# Altium schematic symbol library MyLib.SchLib: 57 symbols
Pins are listed as number, name and electrical type; pins without a type are passive.

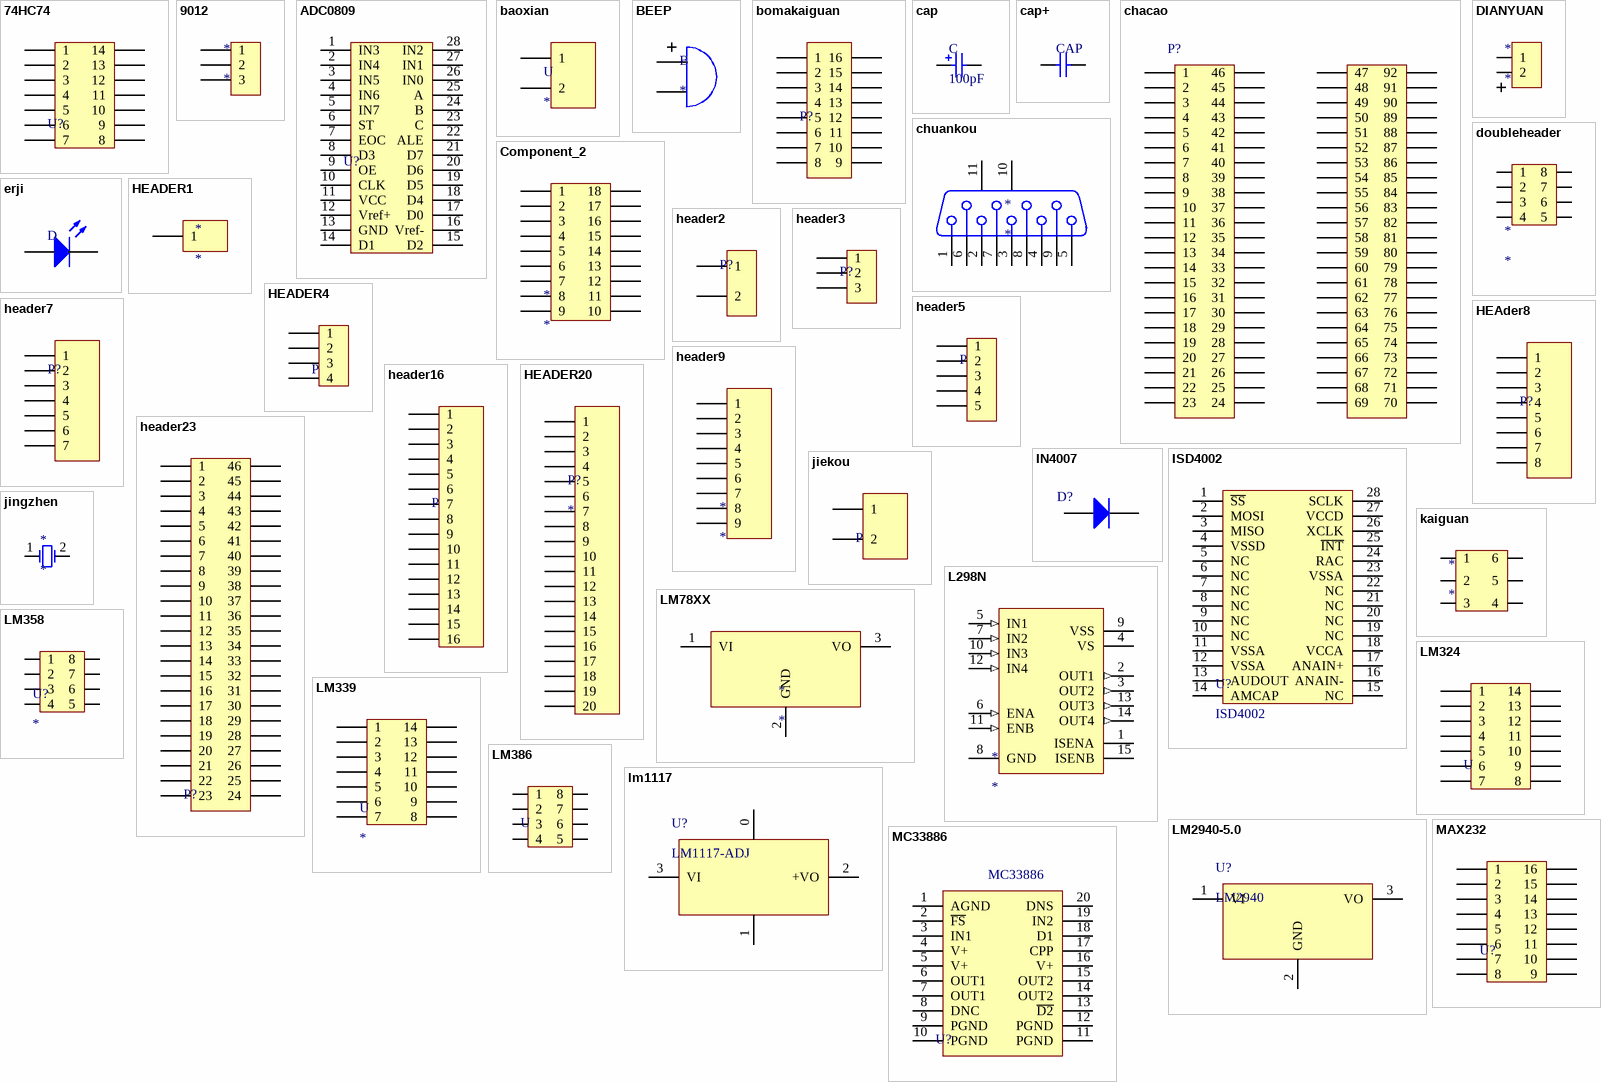
[diagram p0: symbols 74HC74 to MC33886]

## 74HC74
designator U?  (value not drawn)
footprint 74HC74
pins: 1, 2, 3, 4, 5, 6, 7, 8, 9, 10, 11, 12, 13, 14

## 9012
designator *
pins: 1, 2, 3

## ADC0809
designator U?  (value not drawn)
footprint ADC0809
pins: 1 IN3, 2 IN4, 3 IN5, 4 IN6, 5 IN7, 6 ST, 7 EOC, 8 D3, 9 OE, 10 CLK, 11 VCC, 12 Vref+, 13 GND, 14 D1, 15 D2, 16 Vref-, 17 D0, 18 D4, 19 D5, 20 D6, 21 D7, 22 ALE, 23 C, 24 B, 25 A, 26 IN0, 27 IN1, 28 IN2

## baoxian
designator U
footprint baoxian
pins: 1, 2

## BEEP
designator B
footprint BEEP
pins: 1 A, 2 B

## bomakaiguan
designator P?  (value not drawn)
footprint boma
pins: 1, 2, 3, 4, 5, 6, 7, 8, 9, 10, 11, 12, 13, 14, 15, 16

## cap
designator C, comment 100pF
footprint CAP
footprint CAP-100uF
pins: 1, 2

## cap+
designator CAP
footprint CAP--103
pins: 1, 2

## chacao
designator P?
footprint chacao
pins: 1, 2, 3, 4, 5, 6, 7, 8, 9, 10, 11, 12, 13, 14, 15, 16, 17, 18, 19, 20, 21, 22, 23, 24, 25, 26, 27, 28, 29, 30, 31, 32, 33, 34, 35, 36, 37, 38, 39, 40, 41, 42, 43, 44, 45, 46, 47, 48, 49, 50, 51, 52, 53, 54, 55, 56, 57, 58, 59, 60, 61, 62, 63, 64, 65, 66, 67, 68, 69, 70, 71, 72, 73, 74, 75, 76, 77, 78, 79, 80, 81, 82, 83, 84, 85, 86, 87, 88, 89, 90, 91, 92

## chuankou
designator *
pins: 1, 2, 3, 4, 5, 6, 7, 8, 9, 10 MH1, 11 MH2

## Component_2
designator *
footprint PCBComponent_1
pins: 1, 2, 3, 4, 5, 6, 7, 8, 9, 10, 11, 12, 13, 14, 15, 16, 17, 18

## DIANYUAN
designator *
footprint dianyuan
pins: 1, 2

## doubleheader
designator *
footprint header16
pins: 1, 2, 3, 4, 5, 6, 7, 8

## erji
designator D  (value not drawn)
footprint LED
pins: 1 A, 2 K

## HEADER1
designator *
pins: 1

## header2
designator P?  (value not drawn)
footprint header2 - duplicate
footprint HEADER2
pins: 1, 2

## header3
designator P?  (value not drawn)
footprint hesder3
pins: 1, 2, 3

## HEADER4
designator P  (value not drawn)
footprint HEADER4
pins: 1, 2, 3, 4

## header5
designator P  (value not drawn)
footprint header5
pins: 1, 2, 3, 4, 5

## header7
designator P?  (value not drawn)
footprint header7
pins: 1, 2, 3, 4, 5, 6, 7

## HEAder8
designator P?  (value not drawn)
footprint header8
pins: 1, 2, 3, 4, 5, 6, 7, 8

## header9
designator *
footprint heasder9
pins: 1, 2, 3, 4, 5, 6, 7, 8, 9

## header16
designator P  (value not drawn)
footprint header16 - duplicate
footprint header16 - duplicate
pins: 1, 2, 3, 4, 5, 6, 7, 8, 9, 10, 11, 12, 13, 14, 15, 16

## HEADER20
designator P?
footprint header20
pins: 1, 2, 3, 4, 5, 6, 7, 8, 9, 10, 11, 12, 13, 14, 15, 16, 17, 18, 19, 20

## header23
designator P?  (value not drawn)
footprint header23
pins: 1, 2, 3, 4, 5, 6, 7, 8, 9, 10, 11, 12, 13, 14, 15, 16, 17, 18, 19, 20, 21, 22, 23, 24, 25, 26, 27, 28, 29, 30, 31, 32, 33, 34, 35, 36, 37, 38, 39, 40, 41, 42, 43, 44, 45, 46

## IN4007
designator D?
footprint IN4007
pins: 1 A, 2 K

## ISD4002
designator U?
footprint ISD4002
pins: 1 ~{SS}, 2 MOSI, 3 MISO, 4 VSSD, 5 NC, 6 NC, 7 NC, 8 NC, 9 NC, 10 NC, 11 VSSA, 12 VSSA, 13 AUDOUT, 14 AMCAP, 15 NC, 16 ANAIN-, 17 ANAIN+, 18 VCCA, 19 NC, 20 NC, 21 NC, 22 NC, 23 VSSA, 24 RAC, 25 ~{INT}, 26 XCLK, 27 VCCD, 28 SCLK

## jiekou
designator P  (value not drawn)
footprint jiekou
pins: 1, 2

## jingzhen
designator *
footprint XTAL
pins: 1 OSC1, 2 OSC2

## kaiguan
designator *
footprint kaiguan
pins: 1, 2, 3, 4, 5, 6

## L298N
designator *
footprint L298N
pins: 1 ISENA, 2 OUT1 (out), 3 OUT2 (out), 4 VS, 5 IN1 (in), 6 ENA (in), 7 IN2 (in), 8 GND, 9 VSS, 10 IN3 (in), 11 ENB (in), 12 IN4 (in), 13 OUT3 (out), 14 OUT4 (out), 15 ISENB

## LM78XX
designator *
footprint LM78XX
pins: 1 VI, 2 GND, 3 VO

## LM324
designator U
footprint LM324
pins: 1, 2, 3, 4, 5, 6, 7, 8, 9, 10, 11, 12, 13, 14

## LM339
designator U
footprint LM339
pins: 1, 2, 3, 4, 5, 6, 7, 8, 9, 10, 11, 12, 13, 14

## LM358
designator U?
footprint LM358
pins: 1, 2, 3, 4, 5, 6, 7, 8

## LM386
designator U  (value not drawn)
footprint LM386
pins: 1, 2, 3, 4, 5, 6, 7, 8

## lm1117
designator U?, comment LM1117-ADJ
footprint LM1117 (SOT223, 4-Leads, Body 6.7x7.3mm (max), Pitch 2.30mm, IPC Medium Density)
pins: 0, 1, 2 +VO, 3 VI

## LM2940-5.0
designator U?, comment LM2940
footprint LM2940-5.0
pins: 1 VI, 2 GND, 3 VO

## MAX232
designator U?  (value not drawn)
footprint MAX232
pins: 1, 2, 3, 4, 5, 6, 7, 8, 9, 10, 11, 12, 13, 14, 15, 16

## MC33886
designator U?  (value not drawn)
footprint MC33886
pins: 1 AGND, 2 ~{FS}, 3 IN1, 4 V+, 5 V+, 6 OUT1, 7 OUT1, 8 DNC, 9 PGND, 10 PGND, 11 PGND, 12 PGND, 13 ~{D2}, 14 OUT2, 15 OUT2, 16 V+, 17 CPP, 18 D1, 19 IN2, 20 DNS

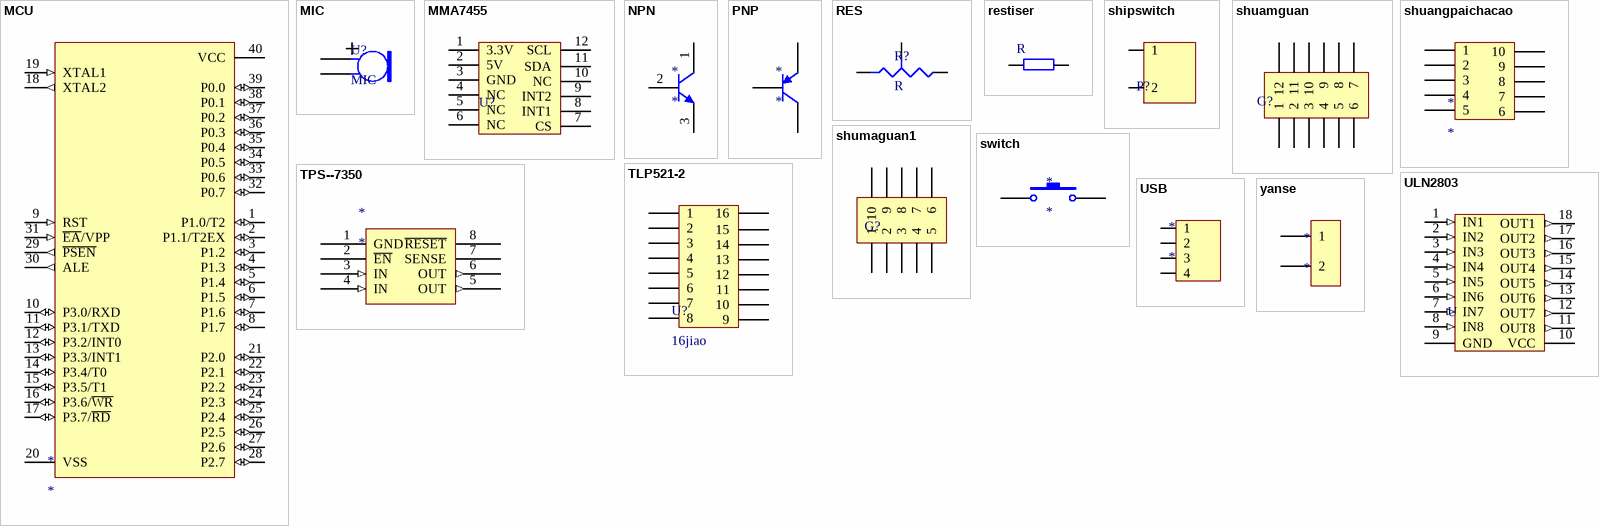
[diagram p1: symbols MCU to yanse]

## MCU
designator *
footprint MCU
pins: 1 P1.0/T2 (io), 2 P1.1/T2EX (io), 3 P1.2 (io), 4 P1.3 (io), 5 P1.4 (io), 6 P1.5 (io), 7 P1.6 (io), 8 P1.7 (io), 9 RST (in), 10 P3.0/RXD (io), 11 P3.1/TXD (io), 12 P3.2/INT0 (io), 13 P3.3/INT1 (io), 14 P3.4/T0 (io), 15 P3.5/T1 (io), 16 P3.6/~{WR} (io), 17 P3.7/~{RD} (io), 18 XTAL2 (out), 19 XTAL1 (in), 20 VSS (power), 21 P2.0 (io), 22 P2.1 (io), 23 P2.2 (io), 24 P2.3 (io), 25 P2.4 (io), 26 P2.5 (io), 27 P2.6 (io), 28 P2.7 (io), 29 ~{PSEN} (out), 30 ALE (out), 31 ~{EA}/VPP (in), 32 P0.7 (io), 33 P0.6 (io), 34 P0.5 (io), 35 P0.4 (io), 36 P0.3 (io), 37 P0.2 (io), 38 P0.1 (io), 39 P0.0 (io), 40 VCC (power)

## MIC
designator U?
footprint MIC
pins: 1, 2

## MMA7455
designator U?  (value not drawn)
footprint MMA7455
pins: 1 3.3V, 2 5V, 3 GND, 4 NC, 5 NC, 6 NC, 7 CS, 8 INT1, 9 INT2, 10 NC, 11 SDA, 12 SCL

## NPN
designator *
pins: 1 C, 2 B, 3 E

## PNP
designator *
footprint PNP
pins: 1 C, 2 B, 3 E

## RES
designator R?, comment R
footprint RP3
pins: 1 A, 2 TAP, 3 B

## restiser
designator R, comment RES  (value not drawn)
footprint rester
footprint RESTER
pins: 1, 2

## shipswitch
designator P?  (value not drawn)
footprint shipswitch
pins: 1, 2

## shuamguan
designator G?  (value not drawn)
footprint shumaguan4
pins: 1, 2, 3, 4, 5, 6, 7, 8, 9, 10, 11, 12

## shuangpaichacao
designator *
footprint headwr10
pins: 1, 2, 3, 4, 5, 6, 7, 8, 9, 10

## shumaguan1
designator G?  (value not drawn)
footprint shumaguan1
pins: 1, 2, 3, 4, 5, 6, 7, 8, 9, 10

## switch
designator *
footprint switch
pins: 1, 2

## TLP521-2
designator U?, comment 16jiao
footprint TLP521-2
pins: 1, 2, 3, 4, 5, 6, 7, 8, 9, 10, 11, 12, 13, 14, 15, 16

## TPS--7350
designator *
footprint TPS7350
pins: 1 GND, 2 ~{EN}, 3 IN (in), 4 IN (in), 5 OUT (out), 6 OUT (out), 7 SENSE, 8 ~{RESET}

## ULN2803
designator U  (value not drawn)
footprint ULN2803
pins: 1 IN1 (in), 2 IN2 (in), 3 IN3 (in), 4 IN4 (in), 5 IN5 (in), 6 IN6 (in), 7 IN7 (in), 8 IN8 (in), 9 GND, 10 VCC, 11 OUT8 (out), 12 OUT7 (out), 13 OUT6 (out), 14 OUT5 (out), 15 OUT4 (out), 16 OUT3 (out), 17 OUT2 (out), 18 OUT1 (out)

## USB
designator *
footprint USB
pins: 1, 2, 3, 4

## yanse
designator *
footprint yanse
footprint yanse
pins: 1, 2